# Altium footprint library transistor.PcbLib: 5 footprints
Each footprint in its own frame and in the unit in brackets; x right, y up, seen from the top. Pads: shape width x height; smd on the part's side, far side on the other; paste and mask are expansions set on the pad; w line width, h text height; cw(c..) or ccw(c..) is an arc to the next point about the centre after c.
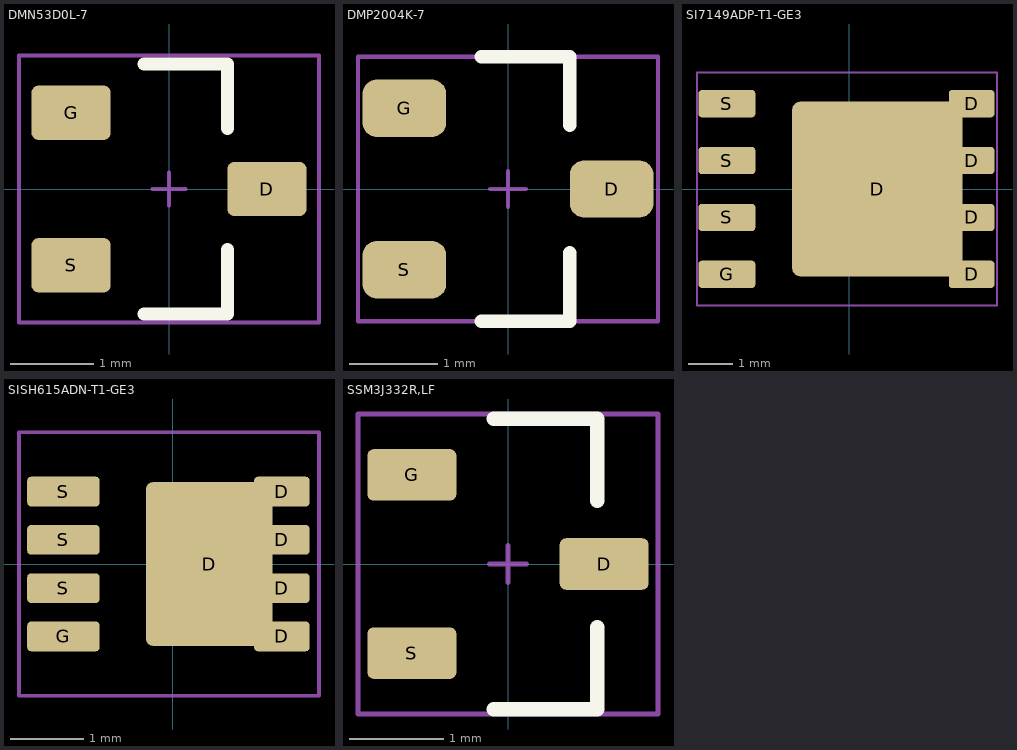
[diagram p0: the footprints below, top view; thin cyan lines are the x and y axes]

## DMN53D0L-7 [mm] "SOT23, 3-Leads, Body 2.90x2.40mm, Pitch 0.92mm, IPC Medium Density"
height 1.1
pads (3):
  rrect25% 0.95x0.65 smd: D(1.175,0) G(-1.175,0.915) S(-1.175,-0.915)
Top Overlay:
  lines w0.154: -0.3,-1.5 0.7,-1.5 0.7,-0.725 ; -0.3,1.5 0.7,1.5 0.7,0.725
Top Assembly:
  lines w0.05: -1.8,-1.6 -1.8,1.6 1.8,1.6 1.8,-1.6 -1.8,-1.6
Top Placement:
  lines w0.05: -0.2,0 0.2,0 ; 0,-0.2 0,0.2 ; -1.8,-1.6 -1.8,1.6 1.8,1.6 1.8,-1.6 -1.8,-1.6
3D body "SOT92P240X110-3N.step": height 1.1, standoff 0, extent -1.25,-1.5 1.25,1.5

## DMP2004K-7 [mm] "SOT23, 3-Leads, Body 2.90x2.40mm, Pitch 0.92mm, IPC Medium Density"
height 1.1
pads (3):
  rrect50% 0.95x0.65 smd: D(1.175,0) G(-1.175,0.915) S(-1.175,-0.915)
Top Overlay:
  lines w0.154: -0.3,-1.5 0.7,-1.5 0.7,-0.725 ; -0.3,1.5 0.7,1.5 0.7,0.725
Top Assembly:
  lines w0.05: -1.7,-1.5 -1.7,1.5 1.7,1.5 1.7,-1.5 -1.7,-1.5
Top Placement:
  lines w0.05: -0.2,0 0.2,0 ; 0,-0.2 0,0.2 ; -1.7,-1.5 1.7,-1.5 1.7,1.5 -1.7,1.5 -1.7,-1.5
3D body "SOT92P240X110-3N.step": height 1.1, standoff 0, extent -1.25,-1.5 1.25,1.5

## SI7149ADP-T1-GE3 [mm]
pads (9):
  rrect10% 3.81x3.91 smd: D(0.628,0)
  rrect25% 1.02x0.61 smd: D(2.733,-1.905) D(2.733,-0.635) D(2.733,0.635) D(2.733,1.905)
  rrect25% 1.27x0.61 smd: G(-2.732,-1.905) S(-2.732,-0.635) S(-2.732,0.635) S(-2.732,1.905)
Top Assembly:
  lines w0.05: -3.4,-2.6 -3.4,2.6 3.3,2.6 3.3,-2.6 -3.4,-2.6
Top Placement:
  lines w0.05: -0.2,0 0.2,0 ; 0,-0.2 0,0.2 ; -3.4,-2.6 -3.4,2.6 3.3,2.6 3.3,-2.6 -3.4,-2.6
3D body "User Library-PowerPAK SO-8 (D).step": height 1.04, standoff 0, extent -3.075,-2.575 3.075,2.575

## SISH615ADN-T1-GE3 [mm]
pads (9):
  rrect10% 1.725x2.235 smd: D(0.501,0)
  rrect25% 0.76x0.405 smd: D(1.493,-0.99) D(1.493,-0.33) D(1.493,0.33) D(1.493,0.99)
  rrect25% 0.99x0.405 smd: G(-1.492,-0.99) S(-1.492,-0.33) S(-1.492,0.33) S(-1.492,0.99)
Top Assembly:
  lines w0.05: -2.1,-1.8 -2.1,1.8 2,1.8 2,-1.8 -2.1,-1.8
Top Placement:
  lines w0.05: -0.2,0 0.2,0 ; 0,-0.2 0,0.2 ; -2.1,-1.8 2,-1.8 2,1.8 -2.1,1.8 -2.1,-1.8
3D body "PowerPAK 1212-8 Single Pad.step": height 1.05, standoff 0.01, extent -1.775,-1.775 1.775,1.775

## SSM3J332R,LF [mm] "SOTFL, 3-Leads, Body 2.90x2.40mm, Pitch 0.95mm, IPC Medium Density"
height 0.88
pads (3):
  rrect25% 0.95x0.55 smd: D(1.025,0) G(-1.025,0.95) S(-1.025,-0.95)
Top Overlay:
  lines w0.154: -0.15,-1.55 0.95,-1.55 0.95,-0.675 ; -0.15,1.55 0.95,1.55 0.95,0.675
Top Assembly:
  lines w0.05: -1.6,-1.6 -1.6,1.6 1.6,1.6 1.6,-1.6 -1.6,-1.6
Top Placement:
  lines w0.05: -0.2,0 0.2,0 ; 0,-0.2 0,0.2 ; -1.6,-1.6 1.6,-1.6 1.6,1.6 -1.6,1.6 -1.6,-1.6
3D body "SOTFL95P240X88-3N.step": height 0.88, standoff 0, extent -1.2,-1.548 1.2,1.548